# Altium schematic symbol library Schlib.this.SchLib: 2 symbols
Pins are listed as number, name and electrical type; pins without a type are passive.

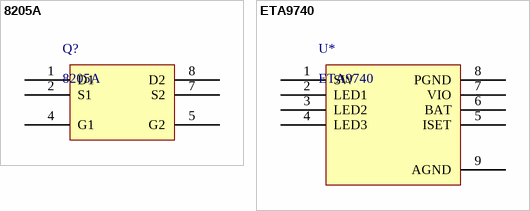
[diagram p0: symbols 8205A to ETA9740]

## 8205A
designator Q?
footprint TSSOP8
pins: 1 D1, 2 S1, 4 G1, 5 G2, 7 S2, 8 D2

## ETA9740
designator U*
footprint SO-8H
pins: 1 SW, 2 LED1, 3 LED2, 4 LED3, 5 ISET, 6 BAT, 7 VIO, 8 PGND, 9 AGND